# Altium footprint library libreriaPcb.PcbLib: 683 footprints (part 11 of 44)
Each footprint in its own frame and in the unit in brackets; x right, y up, seen from the top. Pads: shape width x height; smd on the part's side, far side on the other; paste and mask are expansions set on the pad; w line width, h text height; cw(c..) or ccw(c..) is an arc to the next point about the centre after c.
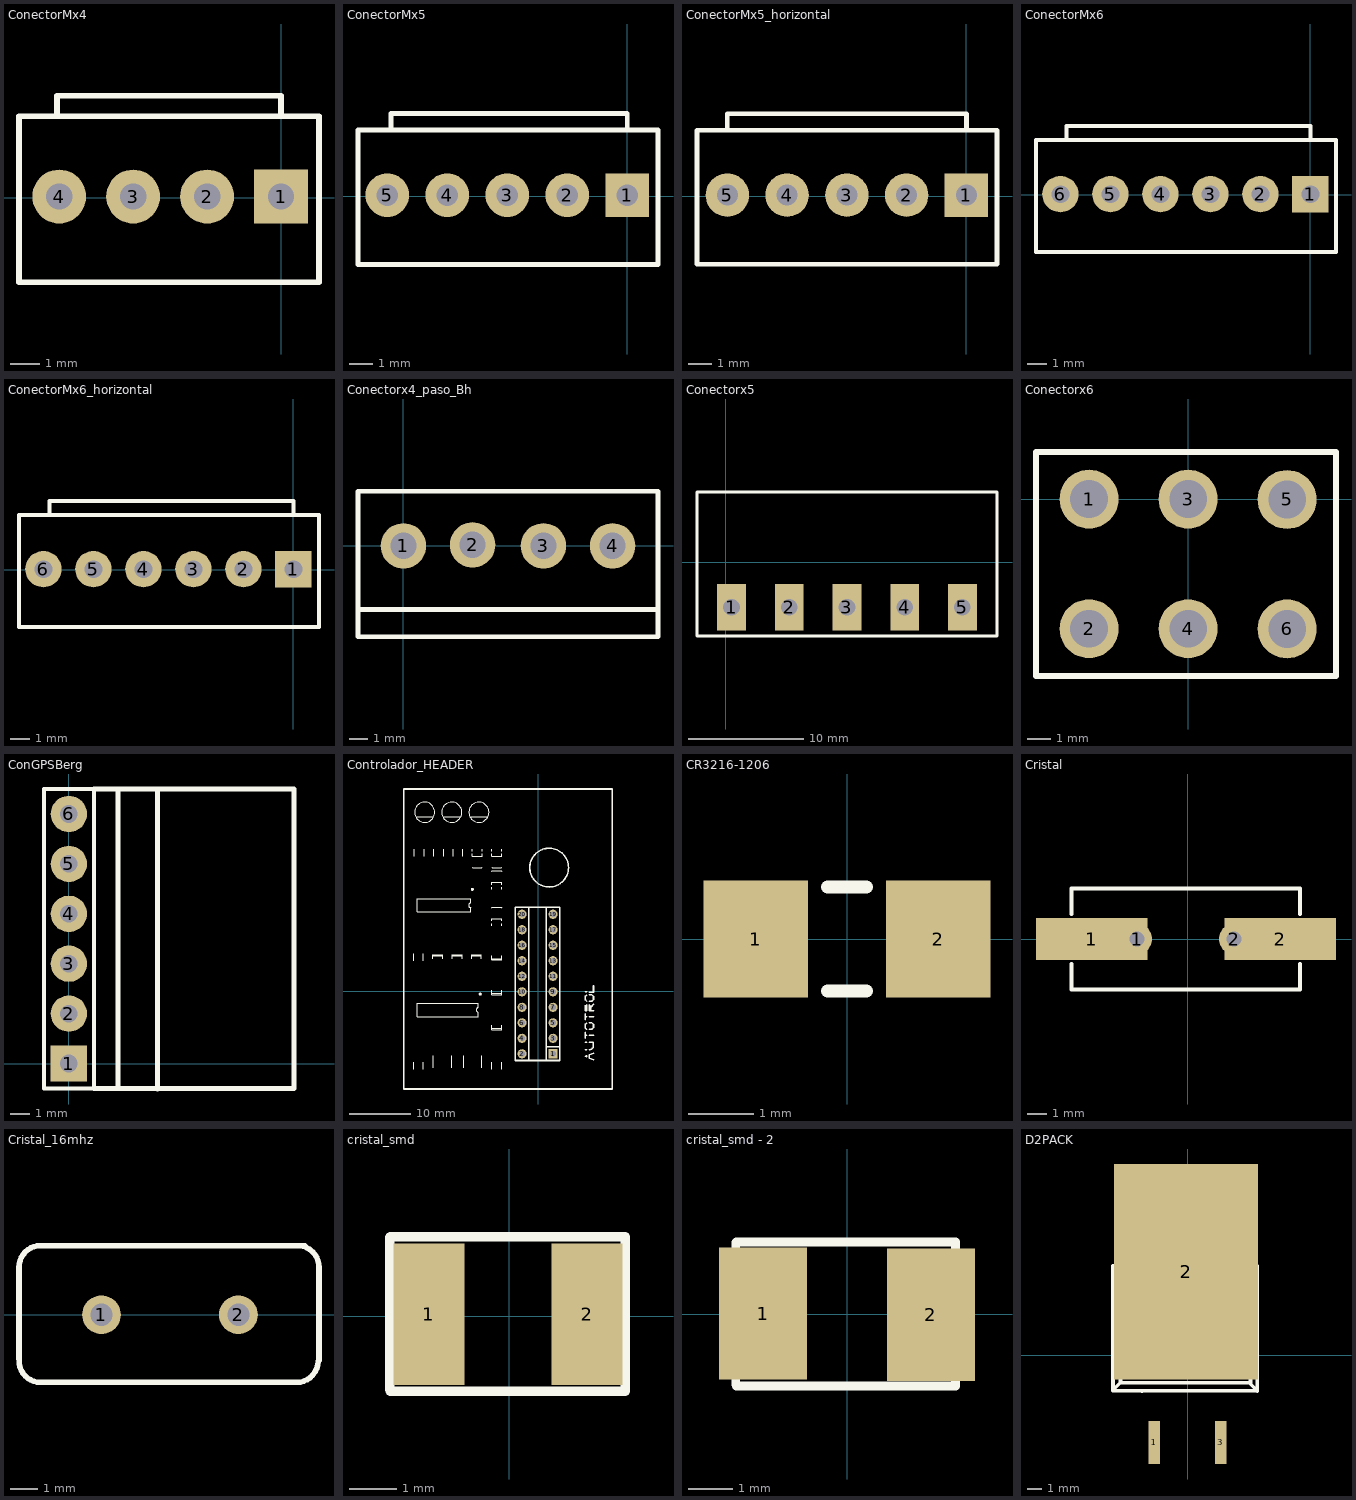
[diagram p10: the footprints below, top view; thin cyan lines are the x and y axes]

## ConectorMx4 [mm]
pads (4):
  rect 1.85x1.85 hole 0.9: 1(0,0.04)
  round 1.85 hole 0.9: 2(-2.54,0.04) 3(-5.08,0.04) 4(-7.62,0.04)
Top Overlay:
  lines w0.2: -7.7,2.8 -7.7,3.5 -7,3.5 0,3.5 0,2.8 ; -9,-2.9 1.3,-2.9 1.3,2.8 -9,2.8 -9,-2.9
3D body: height 6, standoff 0, extent -0.397,-0.359 0.4,0.439
3D body: height 6, standoff 0, extent -2.937,-0.359 -2.14,0.439
3D body: height 6, standoff 0, extent -5.477,-0.359 -4.68,0.439
3D body: height 6, standoff 0, extent -8.017,-0.359 -7.22,0.439
3D body: height 1, standoff 0, extent -9,-2.9 1.3,2.8
3D body: height 10, standoff 0.5, extent -7.7,2 0,2.8

## ConectorMx5 [mm]
pads (5):
  rect 1.85x1.85 hole 0.9: 1(0,0.04)
  round 1.85 hole 0.9: 2(-2.54,0.04) 3(-5.08,0.04) 4(-7.62,0.04) 5(-10.16,0.04)
Top Overlay:
  lines w0.2: -10,2.8 -10,3.5 0,3.5 0,2.8 ; -11.4,-2.9 -11.4,2.8 1.3,2.8 1.3,-2.9 -11.4,-2.9
3D body: height 10, standoff 0.5, extent -10,2 0,2.8
3D body: height 1, standoff 0, extent -11.4,-2.9 1.3,2.8
3D body: height 6, standoff 0, extent -10.557,-0.359 -9.76,0.439
3D body: height 6, standoff 0, extent -8.017,-0.359 -7.22,0.439
3D body: height 6, standoff 0, extent -5.477,-0.359 -4.68,0.439
3D body: height 6, standoff 0, extent -2.937,-0.359 -2.14,0.439
3D body: height 6, standoff 0, extent -0.397,-0.359 0.4,0.439

## ConectorMx5_horizontal [mm]
pads (5):
  rect 1.85x1.85 hole 0.9: 1(0,0.04)
  round 1.85 hole 0.9: 2(-2.54,0.04) 3(-5.08,0.04) 4(-7.62,0.04) 5(-10.16,0.04)
Top Overlay:
  lines w0.2: -10.16,2.8 -10.16,3.5 0,3.5 0,2.8 ; -11.45,-2.9 -11.45,2.8 1.3,2.8 1.3,-2.9 -11.45,-2.9
3D body: height 3, standoff 2.21, extent -0.412,-0.373 0.413,12.325
3D body: height 3, standoff 2.21, extent -2.962,-0.373 -2.137,12.325
3D body: height 3, standoff 2.21, extent -5.512,-0.373 -4.687,12.325
3D body: height 3, standoff 2.21, extent -8.037,-0.373 -7.213,12.325
3D body: height 3, standoff 2.21, extent -10.575,-0.373 -9.75,12.325
3D body: height 0.7, standoff 0, extent -10.16,5.1 0,13.3
3D body: height 5.8, standoff 0, extent -11.45,1.8 1.325,5.1
3D body: height 3, standoff 0, extent -10.56,-0.36 -9.76,0.44
3D body: height 6, standoff 0, extent -8.02,-0.359 -7.22,0.439
3D body: height 6, standoff 0, extent -5.48,-0.359 -4.68,0.439
3D body: height 6, standoff 0, extent -2.94,-0.359 -2.14,0.439
3D body: height 6, standoff 0, extent -0.4,-0.359 0.4,0.439

## ConectorMx6 [mm]
pads (6):
  rect 1.85x1.85 hole 0.9: 1(0,0.04)
  round 1.85 hole 0.9: 2(-2.54,0.04) 3(-5.08,0.04) 4(-7.62,0.04) 5(-10.16,0.04) 6(-12.7,0.04)
Top Overlay:
  lines w0.2: -12.4,2.8 -12.4,3.5 0,3.5 0,2.8 ; -13.94,-2.9 1.3,-2.9 1.3,2.8 -13.94,2.8 -13.94,-2.9
3D body: height 6, standoff 0, extent -13.097,-0.373 -12.3,0.425
3D body: height 6, standoff 0, extent -0.397,-0.359 0.4,0.439
3D body: height 6, standoff 0, extent -2.937,-0.359 -2.14,0.439
3D body: height 6, standoff 0, extent -5.477,-0.359 -4.68,0.439
3D body: height 6, standoff 0, extent -8.017,-0.359 -7.22,0.439
3D body: height 6, standoff 0, extent -10.557,-0.359 -9.76,0.439
3D body: height 1, standoff 0, extent -13.94,-2.9 1.3,2.8
3D body: height 10, standoff 0.5, extent -12.4,2 0,2.8

## ConectorMx6_horizontal [mm]
pads (6):
  rect 1.85x1.85 hole 0.9: 1(0,0.04)
  round 1.85 hole 0.9: 2(-2.54,0.04) 3(-5.08,0.04) 4(-7.62,0.04) 5(-10.16,0.04) 6(-12.7,0.04)
Top Overlay:
  lines w0.2: -12.4,2.8 -12.4,3.5 0,3.5 0,2.8 ; -13.94,-2.9 -13.94,2.8 1.3,2.8 1.3,-2.9 -13.94,-2.9
3D body: height 3, standoff 2.21, extent -0.412,-0.373 0.413,12.325
3D body: height 3, standoff 2.21, extent -2.962,-0.373 -2.137,12.325
3D body: height 3, standoff 2.21, extent -5.512,-0.373 -4.687,12.325
3D body: height 3, standoff 2.21, extent -8.037,-0.373 -7.213,12.325
3D body: height 3, standoff 2.21, extent -10.575,-0.373 -9.75,12.325
3D body: height 3, standoff 2.21, extent -13.125,-0.373 -12.3,12.325
3D body: height 0.7, standoff 0, extent -12.65,5.1 0,13.3
3D body: height 5.8, standoff 0, extent -13.915,1.8 1.325,5.1
3D body: height 3, standoff 0, extent -10.56,-0.36 -9.76,0.44
3D body: height 6, standoff 0, extent -8.02,-0.359 -7.22,0.439
3D body: height 6, standoff 0, extent -5.48,-0.359 -4.68,0.439
3D body: height 6, standoff 0, extent -2.94,-0.359 -2.14,0.439
3D body: height 6, standoff 0, extent -0.4,-0.359 0.4,0.439
3D body: height 3, standoff 0, extent -13.1,-0.374 -12.3,0.426

## Conectorx4_paso_Bh [mm]
pads (4):
  round 2.5 hole 1.45: 1(0,0) 2(3.8,0.05) 3(7.7,0) 4(11.5,0)
Top Overlay:
  lines w0.254: -2.5,-3.5 14,-3.5 ; -2.5,-5 14,-5 14,3 -2.5,3 -2.5,-5

## Conectorx5 [mm]
pads (5):
  rect 2.5x4 hole 1.45: 1(0.5,-3.9) 2(5.5,-3.9) 3(10.5,-3.9) 4(15.5,-3.9) 5(20.5,-3.9)
Top Overlay:
  lines w0.254: -2.5,-6.4 0.5,-6.4 12.5,-6.4 23.5,-6.4 23.5,6.1 -2.5,6.1 -2.5,-6.4

## Conectorx6 [mm]
pads (6):
  round 2.5 hole 1.6: 1(-4.2,0) 2(-4.2,-5.5) 3(0,0) 4(0,-5.5) 5(4.2,-0.02) 6(4.2,-5.51)
Top Overlay:
  lines w0.254: -6.45,-7.5 6.27,-7.5 ; -6.44,-7.51 -6.45,2 2.3,2 6.27,2 6.27,-7.5 ; 6.27,-3.97 6.27,-7.5

## ConGPSBerg [mm]
pads (6):
  rect 1.85x1.85 hole 0.9: 1(0,0)
  round 1.85 hole 0.9: 2(0,2.54) 3(0,5.08) 4(0,7.62) 5(0,10.16) 6(0,12.7)
Top Overlay:
  lines w0.2: -1.27,-1.27 -1.27,13.97 1.27,13.97 1.27,-1.27 -1.27,-1.27
  lines w0.254: 1.27,-1.27 11.457,-1.27 11.457,13.97 1.27,13.97 ; 2.5,-1.25 2.5,13.95 ; 4.5,-1.296 4.5,13.97 4.525,13.97
3D body: height 6, standoff 0, extent 2.575,-1.296 4.525,13.922
3D body: height 1, standoff 0, extent 1.27,-1.423 11.584,14.097
3D body: height 2.95, standoff 2.05, extent 0,12.251 11,13.149
3D body: height 2.95, standoff 2.05, extent 0.05,9.75 11.05,10.648
3D body: height 2.95, standoff 2.05, extent 0,7.171 11,8.069
3D body: height 2.95, standoff 2.05, extent 0,4.631 11,5.529
3D body: height 2.95, standoff 2.05, extent 0,2.091 11,2.989
3D body: height 2.95, standoff 2.05, extent 0,-0.449 11,0.449
3D body: height 3, standoff 0, extent -0.45,12.25 0.45,13.15
3D body: height 3, standoff 0, extent -0.45,-0.45 0.45,0.45
3D body: height 3, standoff 0, extent -0.45,2.09 0.45,2.99
3D body: height 3, standoff 0, extent -0.45,4.63 0.45,5.53
3D body: height 3, standoff 0, extent -0.45,7.17 0.45,8.07
3D body: height 3, standoff 0, extent -0.45,9.71 0.45,10.61

## Controlador_HEADER [mil]
pads (20):
  rect 59x59 hole 35.43: 1(95,-402.99)
  round 59 hole 35.43: 2(-105,-402.99) 3(95,-302.99) 4(-105,-302.99) 5(95,-202.99) 6(-105,-202.99) 7(95,-102.99) 8(-105,-102.99) 9(95,-2.99) 10(-105,-2.99) 11(95,97.01) 12(-105,97.01) 13(95,197.01) 14(-105,197.01) 15(95,297.01) 16(-105,297.01) 17(95,397.01) 18(-105,397.01) 19(95,497.01) 20(-105,497.01)
Top Overlay:
  drawing of 160 lines, arcs and shapes, not listed
3D body: height 43.31, standoff 11.81, extent -784.77,-198.74 -386.15,-41.26
3D body: height 55.12, standoff 43.31, extent -779.87,-163.33 -386.13,-76.67
3D body: height 21.65, standoff 0, extent -802.53,156.02 -743.47,279.06
3D body: height 21.65, standoff 0, extent -797.53,831.02 -738.47,954.06
3D body: height 21.65, standoff 0, extent -672.53,831.02 -613.47,954.06
3D body: height 21.65, standoff 0, extent -547.53,831.02 -488.47,954.06
3D body: height 21.65, standoff 0, extent -677.53,160.94 -618.47,283.98
3D body: height 21.65, standoff 0, extent -427.53,160.94 -368.47,283.98
3D body: height 21.65, standoff 0, extent -552.53,160.94 -493.47,283.98
3D body: height 21.65, standoff 0, extent -297.53,-293.98 -238.47,-170.94
3D body: height 21.65, standoff 0, extent -297.53,156.02 -238.47,279.06
3D body: height 21.65, standoff 0, extent -297.53,-68.98 -238.47,54.06
3D body: height 50.99, standoff 3.94, extent -292.51,620.94 -245.36,739.05
3D body: height 50.99, standoff 3.94, extent -292.51,385.94 -245.36,504.05
3D body: height 50.99, standoff 3.94, extent -290.64,835.95 -243.49,954.06
3D body: height 50.99, standoff 3.94, extent -415.64,835.95 -368.49,954.06
3D body: height 21.65, standoff 0, extent -297.53,-539.06 -238.47,-416.02
3D body: height 21.65, standoff 0, extent -802.53,-539.06 -743.47,-416.02
3D body: height 21.65, standoff 0, extent -472.21,-553.43 -373.79,-356.57
3D body: height 21.65, standoff 0, extent -667.21,-553.43 -568.79,-356.57
3D body: height 244.09, standoff 7.87, extent -441.59,1096.07 -323.94,1213.94
3D body: height 244.09, standoff 7.87, extent -616.59,1096.07 -498.94,1213.94
3D body: height 244.09, standoff 7.87, extent -791.59,1096.07 -673.94,1213.94
3D body: height 68.9, standoff 7.87, extent -780.24,481.18 -435.76,628.82
3D body: height 157.48, standoff 0, extent -144.43,-442.43 134.43,536.44
3D body: height 19.68, standoff 0, extent -415.68,-41.26 -399.93,-1.89
3D body: height 19.68, standoff 0, extent -466.86,-41.26 -451.11,-1.89
3D body: height 19.68, standoff 0, extent -517.06,-41.26 -501.31,-1.89
3D body: height 19.68, standoff 0, extent -566.27,-41.26 -550.52,-1.89
3D body: height 19.68, standoff 0, extent -616.46,-41.26 -600.72,-1.89
3D body: height 19.68, standoff 0, extent -666.66,-41.26 -650.91,-1.89
3D body: height 19.68, standoff 0, extent -716.86,-41.26 -701.11,-1.89
3D body: height 19.68, standoff 0, extent -767.06,-41.26 -751.31,-1.89
3D body: height 19.68, standoff 0, extent -766.07,-238.11 -750.32,-198.74
3D body: height 19.68, standoff 0, extent -715.87,-238.11 -700.13,-198.74
3D body: height 19.68, standoff 0, extent -666.66,-238.11 -650.91,-198.74
3D body: height 19.68, standoff 0, extent -615.48,-238.11 -599.73,-198.74
3D body: height 19.68, standoff 0, extent -565.28,-238.11 -549.54,-198.74
3D body: height 19.68, standoff 0, extent -515.09,-238.11 -499.34,-198.74
3D body: height 19.68, standoff 0, extent -464.89,-238.11 -449.14,-198.74
3D body: height 19.68, standoff 0, extent -415.68,-238.11 -399.93,-198.74
3D body: height 22.05, standoff 21.65, extent -802.53,180.63 -743.47,259.37
3D body: height 22.05, standoff 21.65, extent -797.53,855.63 -738.47,934.37
3D body: height 22.05, standoff 21.65, extent -672.53,855.63 -613.47,934.37
3D body: height 22.05, standoff 21.65, extent -547.53,855.63 -488.47,934.37
3D body: height 22.05, standoff 21.65, extent -677.53,180.63 -618.47,259.37
3D body: height 22.05, standoff 21.65, extent -427.53,180.63 -368.47,259.37
3D body: height 22.05, standoff 21.65, extent -552.53,180.63 -493.47,259.37
3D body: height 22.05, standoff 21.65, extent -297.53,-269.37 -238.47,-190.63
3D body: height 22.05, standoff 21.65, extent -297.53,180.63 -238.47,259.37
3D body: height 22.05, standoff 21.65, extent -297.53,-44.37 -238.47,34.37
3D body: height 50.99, standoff 3.94, extent -291.57,601.26 -244.42,620.95
3D body: height 50.99, standoff 3.94, extent -291.58,739.05 -244.43,758.74
3D body: height 54.9, standoff 0, extent -295.51,717.41 -240.5,729.22
3D body: height 50.99, standoff 3.94, extent -291.57,366.26 -244.42,385.94
3D body: height 50.99, standoff 3.94, extent -291.58,504.05 -244.43,523.74
3D body: height 54.9, standoff 0, extent -295.51,482.41 -240.5,494.22
3D body: height 50.99, standoff 3.94, extent -291.58,954.05 -244.43,973.74
3D body: height 50.99, standoff 3.94, extent -291.57,816.26 -244.42,835.95
3D body: height 54.9, standoff 0, extent -295.5,845.78 -240.49,857.59
3D body: height 50.99, standoff 3.94, extent -416.58,954.05 -369.43,973.74
3D body: height 50.99, standoff 3.94, extent -416.57,816.26 -369.42,835.95
3D body: height 54.9, standoff 0, extent -420.5,845.78 -365.49,857.59
3D body: height 22.05, standoff 21.65, extent -297.53,-519.37 -238.47,-440.63
3D body: height 22.05, standoff 21.65, extent -802.53,-519.37 -743.47,-440.63
3D body: height 22.05, standoff 21.65, extent -472.21,-523.9 -373.79,-386.1
3D body: height 22.05, standoff 21.65, extent -667.21,-523.9 -568.79,-386.1
3D body: height 0, standoff -39.37, extent -398.62,1189.29 -367.25,1220.72
3D body: height 0, standoff -39.37, extent -398.62,1089.29 -367.25,1120.72
3D body: height 0, standoff -39.37, extent -573.62,1189.29 -542.25,1220.72
3D body: height 0, standoff -39.37, extent -573.62,1089.29 -542.25,1120.72
3D body: height 0, standoff -39.37, extent -748.62,1189.29 -717.25,1220.72
3D body: height 0, standoff -39.37, extent -748.62,1089.29 -717.25,1120.72
3D body: height 19.68, standoff 0, extent -465.28,628.82 -450.52,668.19
3D body: height 19.68, standoff 0, extent -514.5,628.82 -499.73,668.19
3D body: height 19.68, standoff 0, extent -564.69,628.82 -549.93,668.19
3D body: height 19.68, standoff 0, extent -614.89,628.82 -600.13,668.19
3D body: height 19.68, standoff 0, extent -665.09,628.82 -650.32,668.19
3D body: height 19.68, standoff 0, extent -715.28,628.82 -700.52,668.19
3D body: height 19.68, standoff 0, extent -764.5,628.82 -749.73,668.19
3D body: height 19.68, standoff 0, extent -765.48,441.81 -750.72,481.18
3D body: height 19.68, standoff 0, extent -715.28,441.81 -700.52,481.18
3D body: height 19.68, standoff 0, extent -665.09,441.81 -650.32,481.18
3D body: height 19.68, standoff 0, extent -615.87,441.81 -601.11,481.18
3D body: height 19.68, standoff 0, extent -565.68,441.81 -550.91,481.18
3D body: height 19.68, standoff 0, extent -515.48,441.81 -500.72,481.18
3D body: height 19.68, standoff 0, extent -465.28,441.81 -450.52,481.18
3D body: height 39.37, standoff 0, extent 79.25,481.28 110.62,512.72
3D body: height 39.37, standoff 0, extent 79.25,381.28 110.62,412.72
3D body: height 39.37, standoff 0, extent 79.25,281.28 110.62,312.72
3D body: height 39.37, standoff 0, extent -120.75,281.28 -89.38,312.72
3D body: height 39.37, standoff 0, extent 79.25,181.28 110.62,212.72
3D body: height 39.37, standoff 0, extent -120.75,181.28 -89.38,212.72
3D body: height 39.37, standoff 0, extent 79.25,81.28 110.62,112.72
3D body: height 39.37, standoff 0, extent -120.75,81.28 -89.38,112.72
3D body: height 39.37, standoff 0, extent -120.75,-18.72 -89.38,12.72
3D body: height 39.37, standoff 0, extent 79.25,-18.72 110.62,12.72
3D body: height 39.37, standoff 0, extent 79.25,-118.72 110.62,-87.28
3D body: height 39.37, standoff 0, extent -120.75,-118.72 -89.38,-87.28
3D body: height 39.37, standoff 0, extent -120.75,-218.72 -89.38,-187.28
3D body: height 39.37, standoff 0, extent 79.25,-218.72 110.62,-187.28
3D body: height 39.37, standoff 0, extent 79.25,-318.72 110.62,-287.28
3D body: height 39.37, standoff 0, extent -120.75,-318.72 -89.38,-287.28
3D body: height 39.37, standoff 0, extent -120.75,-418.72 -89.38,-387.28
3D body: height 39.37, standoff 0, extent 79.25,-418.72 110.62,-387.28
3D body: height 314.96, standoff 0, extent 79.25,481.29 110.62,512.73
3D body: height 314.96, standoff 0, extent -120.75,281.29 -89.38,312.73
3D body: height 314.96, standoff 0, extent -120.75,181.29 -89.38,212.73
3D body: height 314.96, standoff 0, extent -120.75,81.29 -89.38,112.73
3D body: height 314.96, standoff 0, extent -120.75,-18.71 -89.38,12.73
3D body: height 314.96, standoff 0, extent -120.75,-118.71 -89.38,-87.27
3D body: height 314.96, standoff 0, extent -120.75,-218.71 -89.38,-187.27
3D body: height 314.96, standoff 0, extent -120.75,-318.71 -89.38,-287.27
3D body: height 314.96, standoff 0, extent -120.75,-418.71 -89.38,-387.27
3D body: height 314.96, standoff 0, extent 79.25,-418.71 110.62,-387.27
3D body: height 314.96, standoff 0, extent 79.25,-318.71 110.62,-287.27
3D body: height 314.96, standoff 0, extent 79.25,-218.71 110.62,-187.27
3D body: height 314.96, standoff 0, extent 79.25,-218.71 110.62,-187.27
3D body: height 314.96, standoff 0, extent 79.25,-118.71 110.62,-87.27
3D body: height 314.96, standoff 0, extent 79.25,-18.71 110.62,12.73
3D body: height 314.96, standoff 0, extent 79.25,81.29 110.62,112.73
3D body: height 314.96, standoff 0, extent 70.25,187.28 101.62,218.72
3D body: height 314.96, standoff 0, extent 79.25,281.29 110.62,312.73
3D body: height 314.96, standoff 0, extent 79.25,381.29 110.62,412.73
3D body: height 314.96, standoff 0, extent -120.75,381.29 -89.38,412.73
3D body: height 314.96, standoff 0, extent -120.75,481.29 -89.38,512.73

## CR3216-1206 [mm] "Chip Resistor; Body 3.2 x 1.6 mm (LxW typ)"
height 1.35
pads (2):
  rect 1.6x1.8 smd: 1(-1.4,0) 2(1.4,0)
Top Overlay:
  lines w0.2: -0.3,-0.8 0.3,-0.8 ; -0.3,0.8 0.3,0.8

## Cristal [mil]
pads (4):
  rect 220.47x82.68 smd: 1(-190,0) 2(184.02,0)
  round 60 hole 30: 1(-100,0) 2(92.13,0)
Top Overlay:
  lines w7.87: -230,-50 -230,-100 222.76,-100 222.76,-50 ; -230,50 -230,100 222.76,100 222.76,50

## Cristal_16mhz [mm]
pads (2):
  round 1.4 hole 0.8: 1(4.75,0) 2(9.7,0)
Top Overlay:
  lines w0.2: 1.768,-1.636 ccw(c2.55,-1.667) 2.55,-2.45 11.8,-2.45 ccw(c11.8,-1.667) 12.582,-1.684 12.615,-1.652 12.615,1.718 ccw(c11.832,1.718) 11.8,2.5 ; 1.767,-1.6 1.767,1.717 cw(c2.55,1.717) 2.55,2.5 12.1,2.5
3D body: height 10, standoff 0, extent 1.667,-2.55 12.715,2.601

## cristal_smd [mm]
pads (2):
  rect 1.5x3 smd: 1(-1.7,0.04) 2(1.65,0.04)
Top Overlay:
  lines w0.2: -2.53,-1.56 -2.53,0.94 ; -2.53,0.9 -2.53,1.67 ; -2.52,-1.59 2.46,-1.59 2.46,1.67 ; -2.52,1.68 2.46,1.68

## cristal_smd - 2 [mm]
pads (2):
  rect 2x3 smd: 1(-1.906,0.013) 2(1.906,-0.013)
Top Overlay:
  lines w0.2: -2.525,-1.602 -2.525,0.898 ; -2.525,0.858 -2.525,1.628 ; -2.515,-1.632 2.465,-1.632 2.465,1.628 ; -2.515,1.638 2.465,1.638
3D body: height 1.5, standoff 0, extent -2.526,-1.64 2.528,1.564

## D2PACK [mm]
pads (3):
  rect 0.8x3 smd: 1(-2.34,-6.065) 3(2.3,-6.065)
  rect 10x15 smd: 2(-0.12,5.835)
Top Overlay:
  lines w0.254: -5.23,-2.435 -5.23,-2.465 -0.21,-2.465 ; -5.21,-2.445 -5.21,6.245 4.85,6.245 4.85,-2.475 4.85,-2.465 ; -5.19,-2.395 -4.74,-1.945 ; -5.11,6.145 -4.68,5.715 ; -3.19,-2.485 -3.19,-2.465 3.35,-2.465 ; -3.19,6.255 3.36,6.255 3.36,6.215 3.35,6.215 ; 1.38,-2.465 4.85,-2.465 ; 4.37,-1.915 -4.68,-1.915 -4.68,5.715 ; 4.37,-1.795 4.37,5.665 ; 4.39,-2.005 4.85,-2.465 ; 4.82,6.165 4.39,5.735 4.39,5.715 -4.68,5.715
3D body: height 1, standoff 0, extent -3.457,-2.465 3.47,6.285